# Altium schematic symbol library SCH - BATTERY MANAGEMENT - TI BQ27542DRZR-G1.SCHLIB: 1 symbol
Pins are listed as number, name and electrical type; pins without a type are passive.

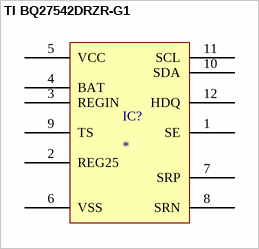
[diagram p0: symbol TI BQ27542DRZR-G1]

## TI BQ27542DRZR-G1
designator IC?
pins: 1 SE, 2 REG25, 3 REGIN, 4 BAT, 5 VCC, 6 VSS, 7 SRP, 8 SRN, 9 TS, 10 SDA, 11 SCL, 12 HDQ